# Altium footprint library PcbLib1.PcbLib: 2 footprints
Each footprint in its own frame and in the unit in brackets; x right, y up, seen from the top. Pads: shape width x height; smd on the part's side, far side on the other; paste and mask are expansions set on the pad; w line width, h text height; cw(c..) or ccw(c..) is an arc to the next point about the centre after c.
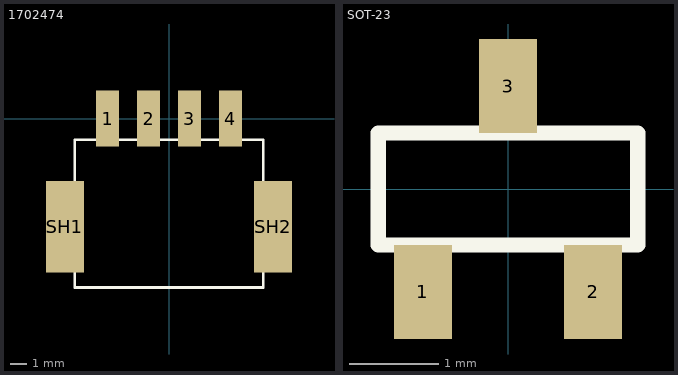
[diagram p0: the footprints below, top view; thin cyan lines are the x and y axes]

## 1702474 [mm]
pads (6):
  rect 1.4x3.4 smd: 1(-3.75,0) 2(-1.25,0) 3(1.25,0) 4(3.75,0)
  rect 2.3x5.6 smd: SH1(-6.35,-6.6) SH2(6.35,-6.6)
Top Overlay:
  lines w0.17: -5.75,-10.3 -5.75,-1.3 5.75,-1.3 5.75,-10.3 -5.75,-10.3
3D body: height 5, standoff -0.12, extent -7.2,-10.3 7.2,0.7

## SOT-23 [mm]
pads (3):
  rect 0.65x1.05 smd: 1(-0.95,-1.15) 2(0.95,-1.15) 3(0,1.15)
Top Overlay:
  lines w0.17: -1.45,-0.625 -1.45,0.625 1.45,0.625 1.45,-0.625 -1.45,-0.625
3D body: height 1.2, standoff 0.02, extent -1.5,-1.418 1.5,1.418